# Altium schematic symbol library shield_components.SchLib: 22 symbols
Pins are listed as number, name and electrical type; pins without a type are passive.

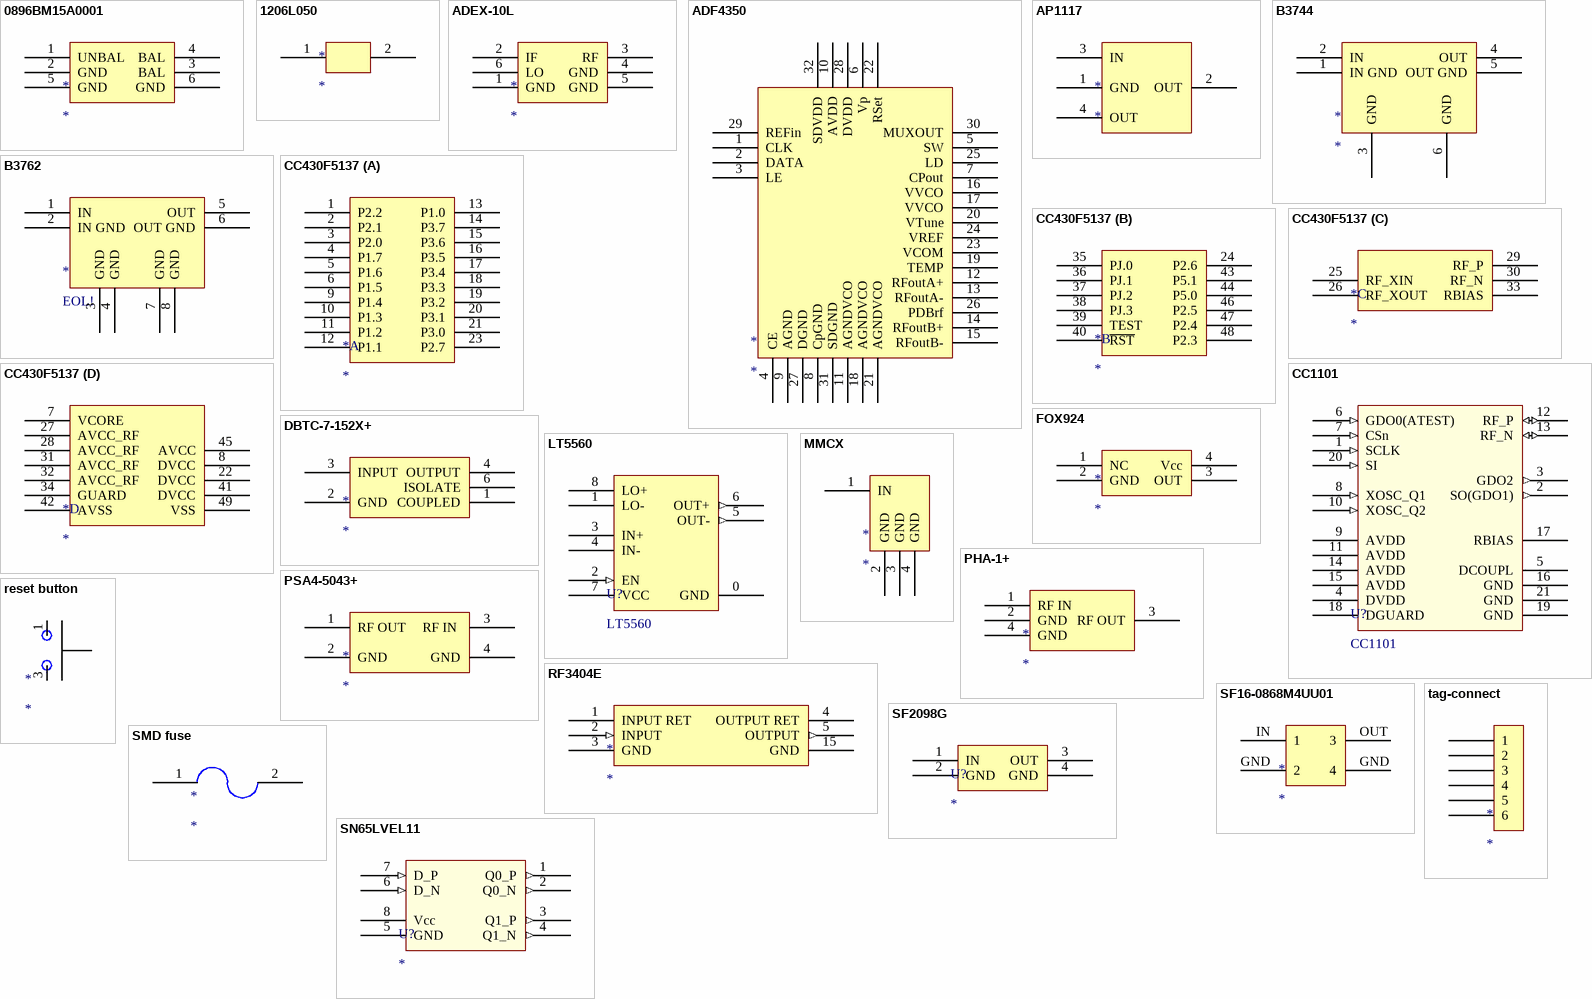
[diagram p0: symbols 0896BM15A0001 to tag-connect]

## 0896BM15A0001
designator *
Balun
pins: 1 UNBAL, 2 GND, 3 BAL, 4 BAL, 5 GND, 6 GND

## 1206L050
designator *
pins: 1, 2

## ADEX-10L
designator *
Passive Mixer
pins: 1 GND, 2 IF, 3 RF, 4 GND, 5 GND, 6 LO

## ADF4350
designator *
VCO
footprint QFN50P500X500-32VBN (32-Pin Plastic Quad Flat No-Lead 0.5 mm Pitch)
pins: 1 CLK, 2 DATA, 3 LE, 4 CE, 5 SW, 6 Vp (power), 7 CPout, 8 CpGND (power), 9 AGND (power), 10 AVDD (power), 11 AGNDVCO (power), 12 RFoutA+, 13 RFoutA-, 14 RFoutB+, 15 RFoutB-, 16 VVCO (power), 17 VVCO (power), 18 AGNDVCO (power), 19 TEMP, 20 VTune, 21 AGNDVCO (power), 22 RSet, 23 VCOM (power), 24 VREF (power), 25 LD, 26 PDBrf, 27 DGND (power), 28 DVDD (power), 29 REFin, 30 MUXOUT, 31 SDGND (power), 32 SDVDD (power)

## AP1117
designator *
pins: 1 GND, 2 OUT, 3 IN, 4 OUT

## B3744
designator *
pins: 1 IN GND, 2 IN, 3 GND, 4 OUT, 5 OUT GND, 6 GND

## B3762
designator *, comment EOL!
EOL 868 MHz SAW filter
pins: 1 IN, 2 IN GND, 3 GND, 4 GND, 5 OUT, 6 OUT GND, 7 GND, 8 GND

## CC430F5137
designator *
part A pins: 1 P2.2, 2 P2.1, 3 P2.0, 4 P1.7, 5 P1.6, 6 P1.5, 9 P1.4, 10 P1.3, 11 P1.2, 12 P1.1, 13 P1.0, 14 P3.7, 15 P3.6, 16 P3.5, 17 P3.4, 18 P3.3, 19 P3.2, 20 P3.1, 21 P3.0, 23 P2.7
part B pins: 24 P2.6, 35 PJ.0, 36 PJ.1, 37 PJ.2, 38 PJ.3, 39 TEST, 40 ~{RST}, 43 P5.1, 44 P5.0, 46 P2.5, 47 P2.4, 48 P2.3
part C pins: 25 RF_XIN, 26 RF_XOUT, 29 RF_P, 30 RF_N, 33 RBIAS
part D pins: 7 VCORE, 8 DVCC, 22 DVCC, 27 AVCC_RF, 28 AVCC_RF, 31 AVCC_RF, 32 AVCC_RF, 34 GUARD, 41 DVCC, 42 AVSS, 45 AVCC, 49 VSS "ground pad"

## CC1101
designator U?
TI <1GHz Transceiver Chip; Manufacturer: Texas Instruments; Manufacturer Part Number: CC1101RTKR; Description: IC RF TXRX LP SUB-IGHZ 20-QFN; Frequency: 315MHz, 433MHz, 868MHz, 915MHz; Data Rate - Maximum: 500kBaud; Modulation or Protocol: 2-FSK, ASK, GFSK, MSK, OOK; Power - Output: -30dBm ~ 10dBm; Sensitivity: -111dBm; Voltage - Supply: 1.8 V ~ 3.6 V; Current - Receiving: 17.1mA; Current - Transmitting: 32.3mA @ 10dBm; Data Interface: PCB, Surface Mount; Supplier 1: Digi-Key; RoHS: RoHS Compliant; Category: RF/IF and RFID; Stock 1: 36745; Pricing 1: 1=4.75, 10=4.257, 25=3.828, 100=3.4815, 250=3.15152, 500=2.8215, 1000=2.376 (USD); Applications: AMR, ISM, SRD; Memory Size: -; Antenna Connector: PCB, Surface Mount; Operating Temperature: -40°C ~ 85°C; Package / Case: 20-VFQFN Exposed Pad; Packaging: Cut Tape (CT); ComponentLink1URL: http://www.ti.com/lit/ds/symlink/cc1101.pdf; ComponentLink1Description: Datasheet; Supplier Part Number 1: 296-21981-1-ND
pins: 1 SCLK (in), 2 SO(GDO1) (out), 3 GDO2 (out), 4 DVDD (power), 5 DCOUPL, 6 GDO0(ATEST) (in), 7 CSn (in), 8 XOSC_Q1 (in), 9 AVDD (power), 10 XOSC_Q2 (in), 11 AVDD (power), 12 RF_P (io), 13 RF_N (io), 14 AVDD (power), 15 AVDD (power), 16 GND (power), 17 RBIAS, 18 DGUARD (power), 19 GND (power), 20 SI (in), 21 GND (power)

## DBTC-7-152X+
designator *
pins: 1 COUPLED, 2 GND, 3 INPUT, 4 OUTPUT, 6 ISOLATE

## FOX924
designator *
footprint FOX924
pins: 1 NC, 2 GND, 3 OUT, 4 Vcc

## LT5560
designator U?
Mixer; Manufacturer: Linear Technology; Manufacturer Part Number: LT5560EDD#PBF; Description: IC MIXER ACTIVE LP 8-DFN; RF Type: CATV, DBS, PHS, UHF, VHF; Frequency: 10MHz ~ 4GHz; Number of Mixers: 1; Gain: 2.4dB; Noise Figure: 9.3dB; Secondary Attributes: Up/Down Converter; Current - Supply: 12mA; Voltage - Supply: 2.7 V ~ 5.3 V; Supplier 1: Digi-Key; RoHS: RoHS Compliant; Category: RF/IF and RFID; Stock 1: 0; Pricing 1: 1=3.14, 25=2.22, 100=1.87 (USD); Packaging: Tube; Package / Case: 8-WFDFN Exposed Pad; Supplier Device Package: 8-DFN-EP (3x3); ComponentLink1URL: http://www.linear.com/docs/14638; ComponentLink1Description: http://www.linear.com/docs/14638; Supplier Part Number 1: LT5560EDD#PBF-ND
footprint 8DFN
pins: 0 GND, 1 LO-, 2 EN (in), 3 IN+, 4 IN-, 5 OUT- (out), 6 OUT+ (out), 7 VCC (power), 8 LO+

## MMCX
designator *
pins: 1 IN, 2 GND, 3 GND, 4 GND

## PHA-1+
designator *
Amplifier
pins: 1 RF IN, 2 GND, 3 RF OUT, 4 GND

## PSA4-5043+
designator *
LNA
pins: 1 RF OUT, 2 GND, 3 RF IN , 4 GND

## reset button
designator *
pins: 1, 3

## RF3404E
designator *
433 MHz SAW filter
footprint SM3030-6
pins: 1 INPUT RET, 2 INPUT (in), 3 GND (power), 4 OUTPUT RET, 5 OUTPUT (out), 15 GND (power)

## SF16-0868M4UU01
designator *
868 MHz SAW filter
pins: GND 2, GND 4, IN 1, OUT 3

## SF2098G
designator U?
915 MHz SAW filter
footprint SM2520-4
pins: 1 IN, 2 GND, 3 OUT, 4 GND

## SMD fuse
designator *
pins: 1, 2

## SN65LVEL11
designator U?
IC Clock Buffer 1:2; Manufacturer: Texas Instruments; Manufacturer Part Number: SN65LVEL11DGK; Description: IC CLOCK BUFFER 1:2 2.9GHZ 8MSOP; Number of Circuits: 1; Differential - Input:Output: Yes/Yes; Input: ECL, PECL; Frequency - Max: 2.9GHz; Voltage - Supply: 3 V ~ 3.8 V; Supplier 1: Digi-Key; RoHS: RoHS Compliant; Category: Integrated Circuits (ICs); Stock 1: 880; Pricing 1: 1=3.42, 10=3.05, 100=2.501, 250=2.257, 500=2.0252, 1000=1.708, 2500=1.6226, 5000=1.5616, 10000=1.5128 (USD); Type: Fanout Buffer (Distribution); Ratio - Input:Output: 1:2; Output: ECL, PECL; Operating Temperature: -40°C ~ 85°C; Mounting Type: Surface Mount; Package / Case: 8-TSSOP, 8-MSOP (0.118", 3.00mm Width); Supplier Device Package: 8-MSOP; Packaging: Tube; ComponentLink1URL: http://www.ti.com/lit/ds/symlink/sn65lvel11.pdf; ComponentLink1Description: http://www.ti.com/lit/ds/symlink/sn65lvel11.pdf; Supplier Part Number 1: 296-24113-5-ND
pins: 1 Q0_P (out), 2 Q0_N (out), 3 Q1_P (out), 4 Q1_N (out), 5 GND (power), 6 D_N (in), 7 D_P (in), 8 Vcc (power)

## tag-connect
designator *
pins: ?1 1, ?2 2, ?3 3, ?4 4, ?5 5, ?6 6